# Altium schematic symbol library CC0402JRNPO9BN330.SchLib: 1 symbol
Pins are listed as number, name and electrical type; pins without a type are passive.

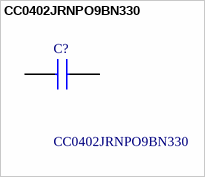
[diagram p0: symbol CC0402JRNPO9BN330]

## CC0402JRNPO9BN330
designator C?
YAGEO - CC0402JRNPO9BN330 - SMD Multilayer Ceramic Capacitor, 33 pF, 50 V, 0402 [1005 Metric], +/- 5%, C0G / NP0, CC Series; Manufacturer_Name: Yageo Group; Geometry.Height: 0.55mm; Mouser Part Number: 603-CC402JRNPO9BN330; Mouser Price/Stock: https://www.mouser.com/Search/Refine.aspx?Keyword=603-CC402JRNPO9BN330; Manufacturer_Part_Number: CC0402JRNPO9BN330; Datasheet Link: https://componentsearchengine.com/Datasheets/1/CC0402JRNPO9BN330.pdf
footprint CAPC1005X55N
pins: 1, 2